# Altium footprint library Radolovic_PCB_Library.PcbLib: 19 footprints (part 2 of 2)
Each footprint in its own frame and in the unit in brackets; x right, y up, seen from the top. Pads: shape width x height; smd on the part's side, far side on the other; paste and mask are expansions set on the pad; w line width, h text height; cw(c..) or ccw(c..) is an arc to the next point about the centre after c.
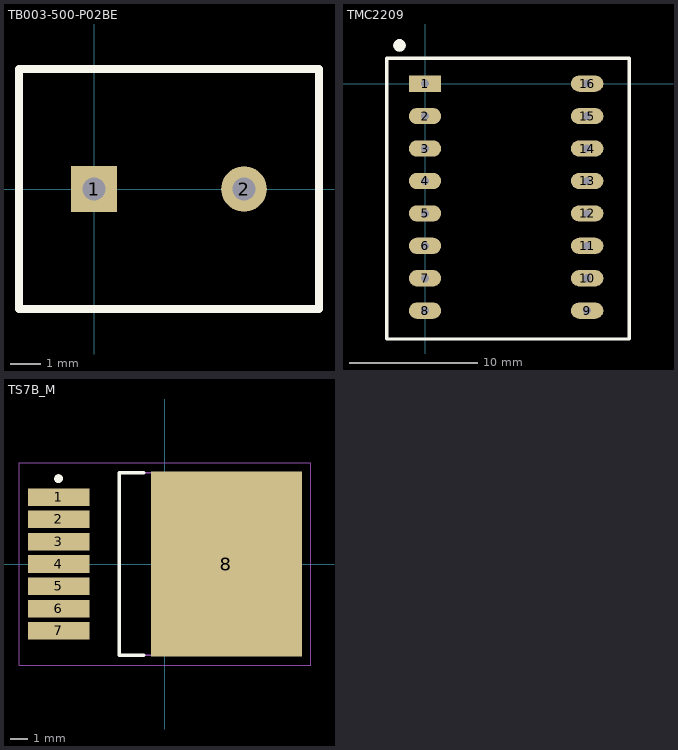
[diagram p1: the footprints below, top view; thin cyan lines are the x and y axes]

## TB003-500-P02BE [mil]
pads (2):
  rect 60x60 hole 30: 1(0,0)
  round 60 hole 30: 2(196.85,0)
Top Overlay:
  lines w10: -98.43,-157.48 295.28,-157.48 295.28,157.48 -98.43,157.48 -98.43,-157.48

## TMC2209 [mm]
pads (17):
  rect 2.54x1.27 hole 0.635: 1(0,0)
  oval 2.54x1.27 hole 0.635: 2(0,-2.54) 3(0,-5.08) 4(0,-7.62) 5(0,-10.16) 6(0,-12.7) 7(0,-15.24) 8(0,-17.78) 9(12.7,-17.78) 10(12.7,-15.24) 11(12.7,-12.7) 12(12.7,-10.16) 13(12.7,-7.62) 14(12.7,-5.08) 15(12.7,-2.54) 16(12.7,0)
  round 1 on Top Overlay: ""(-2,3)
Top Overlay:
  lines w0.254: -3,-20 16,-20 16,2 -3,2 -3,-20

## TS7B_M [mm] "D2-PAK, 8-Leads, Body 8.6x10.2mm, Pitch 1.27mm, Lead Span 14.1mm, IPC Low Density"
height 4.64
pads (8):
  rect 3.5x1 smd: 1(-6.05,3.81) 2(-6.05,2.54) 3(-6.05,1.27) 4(-6.05,0) 5(-6.05,-1.27) 6(-6.05,-2.54) 7(-6.05,-3.81)
  rect 8.6x10.55 smd: 8(3.5,0)
Top Overlay:
  circle w0.25: c-6.05,4.86 r0.125
  lines w0.2: -1.2,-5.2 -2.6,-5.2 -2.6,5.2 -1.2,5.2
Mechanical 13:
  lines w0.1: -2.6,-5.2 -2.6,5.2 6.29,5.2 6.29,-5.2 -2.6,-5.2
Mechanical 15:
  lines w0.05: -8.3,-5.775 -8.3,5.775 8.3,5.775 8.3,-5.775 -8.3,-5.775
  lines w0.1: -0.5,0 0.5,0 ; 0,-0.5 0,0.5
3D body: height 4.64, standoff 0, extent -2.6,-5.2 6.29,5.2